# Altium footprint library Common.PcbLib: 39 footprints (part 1 of 3)
Each footprint in its own frame and in the unit in brackets; x right, y up, seen from the top. Pads: shape width x height; smd on the part's side, far side on the other; paste and mask are expansions set on the pad; w line width, h text height; cw(c..) or ccw(c..) is an arc to the next point about the centre after c.
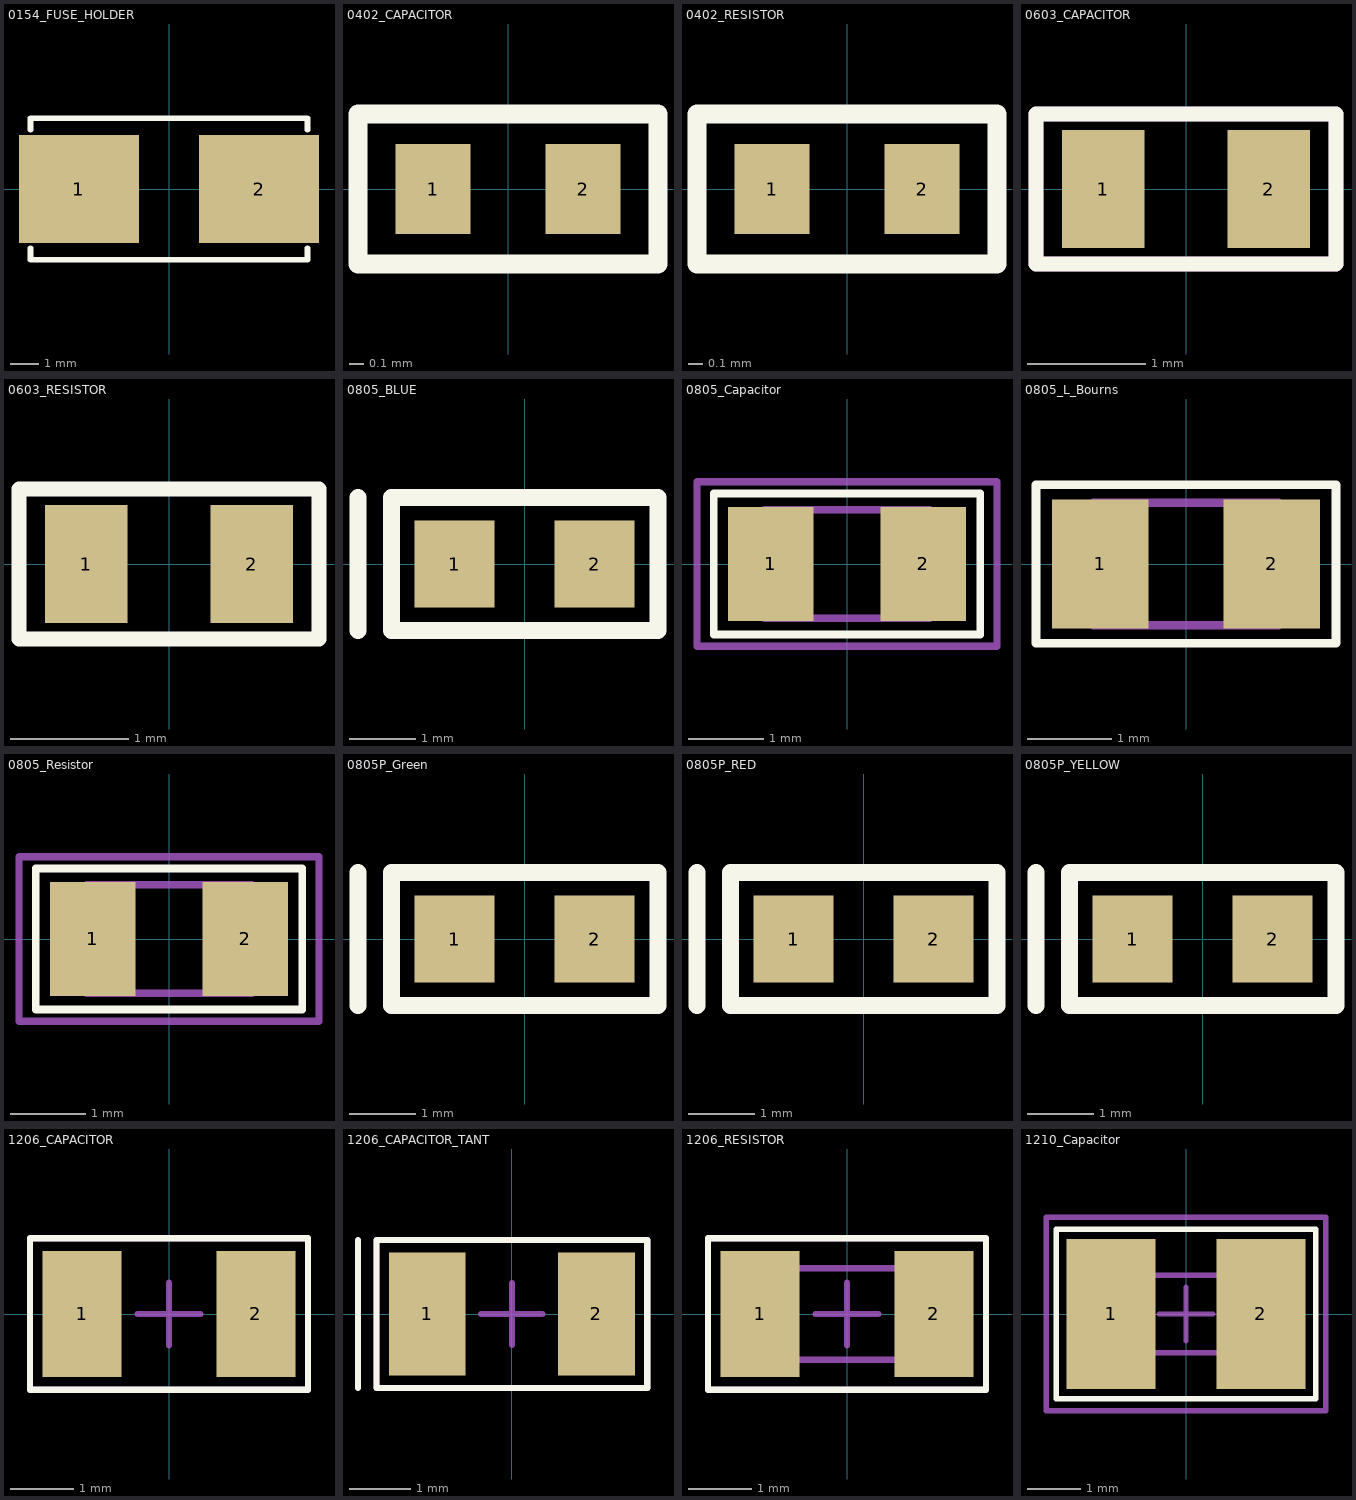
[diagram p0: the footprints below, top view; thin cyan lines are the x and y axes]

## 0154_FUSE_HOLDER [mm] "FUSE BLOK CARTRIDGE 125V 10A SMD"
height 3.81
pads (2):
  rect 4.24x3.81 smd: 1(-3.185,0) 2(3.185,0)
Top Overlay:
  lines w0.2: -4.9,-2.1 -4.9,-2.5 4.9,-2.5 4.9,-2.1 ; -4.9,2.1 -4.9,2.5 4.9,2.5 4.9,2.1
3D body "User Library-OMNI-BLOK littelfuse.step": height 3.81, standoff 0, extent -4.915,-2.515 4.915,2.515

## 0402_CAPACITOR [mil] "0402 CAPACITOR"
pads (2):
  rect 20x24 smd: 1(-20,0) 2(20,0)
Top Overlay:
  lines w5: -40,-20 40,-20 40,20 -40,20 -40,-20
Mechanical 15:
  lines w3.94: -40,-20 -40,20 40,20 40,-20 -40,-20
3D body "User Library-CAPC1005X06.step": height 23.62, standoff 0, extent -19.68,-9.84 19.69,9.85

## 0402_RESISTOR [mil] "0402 RESISTOR"
pads (2):
  rect 20x24 smd: 1(-20,0) 2(20,0)
Top Overlay:
  lines w5: -40,-20 40,-20 40,20 -40,20 -40,-20
Mechanical 15:
  lines w3.94: -40,-20 -40,20 40,20 40,-20 -40,-20
3D body "User Library-RES_1005-0402.step": height 16.64, standoff 0.5, extent -22.63,-10.82 22.64,10.83

## 0603_CAPACITOR [mm] "0603 Capacitor"
height 1.1
pads (2):
  rect 0.7x1 smd: 1(-0.7,0) 2(0.7,0)
Top Overlay:
  lines w0.127: -1.27,-0.635 -1.27,0.635 1.27,0.635 1.27,-0.635 -1.27,-0.635
Mechanical 15:
  lines w0.127: -1.27,-0.635 -1.27,0.635 1.27,0.635 1.27,-0.635 -1.27,-0.635
3D body "User Library-0603 SMD Capacitor.step": height 0.3, standoff 0, extent -0.8,-0.4 0.8,0.4

## 0603_RESISTOR [mm] "0603 RESISTOR"
height 0.8
pads (2):
  rect 0.7x1 smd: 1(-0.7,0) 2(0.7,0)
Top Overlay:
  lines w0.127: -1.27,-0.635 -1.27,0.635 1.27,0.635 1.27,-0.635 -1.27,-0.635
Mechanical 15:
  lines w0.1: -1.27,-0.635 1.27,-0.635 1.27,0.635 -1.27,0.635 -1.27,-0.635
3D body "User Library-0603 SMD Resistor.step": height 0.3, standoff 0, extent -0.8,-0.4 0.8,0.4

## 0805_BLUE [mm] "Chip Capacitor; Body 2.0 x 1.2 mm (LxW typ)"
height 1.3
pads (2):
  rect 1.2x1.3 smd: 1(-1.05,0) 2(1.05,0)
Top Overlay:
  lines w0.254: -2.5,-1 -2.5,1 ; -2,-1 2,-1 2,1 -2,1 -2,-1
3D body "0805_led_blue.stp": height 0.79, standoff 0, extent -1.016,-0.635 0.991,0.61

## 0805_Capacitor [mil] "0805 Capacitor"
height 43.31
pads (2):
  rect 45x60 smd: 1(-40,0) 2(40,0)
Top Overlay:
  lines w4: -70,-37 70,-37 70,37 -70,37 -70,-37
Mechanical 13:
  lines w3.94: -43.31,-28.54 43.31,-28.54 43.31,28.54 -43.31,28.54 -43.31,-28.54
Mechanical 15:
  lines w3.94: -78.74,-43.31 -78.74,43.31 78.74,43.31 78.74,-43.31 -78.74,-43.31
3D body "User Library-0805 SMD Capacitor.step": height 29.79, standoff -1, extent -39.37,-24.6 39.37,24.6

## 0805_L_Bourns [mil]
pads (2):
  rect 45x60 smd: 1(-40,0) 2(40,0)
Top Overlay:
  lines w4: -70,-37 70,-37 70,37 -70,37 -70,-37
Mechanical 13:
  lines w3.94: -43.31,-28.54 43.31,-28.54 43.31,28.54 -43.31,28.54 -43.31,-28.54
3D body "L_120n_0805.stp": height 39.87, standoff 0.5, extent -39.36,-19.99 39.38,19.38

## 0805_Resistor [mil] "0805 Resistor"
height 43.31
pads (2):
  rect 45x60 smd: 1(-40,0) 2(40,0)
Top Overlay:
  lines w4: -70,-37 -70,37 70,37 70,-37 -70,-37
Mechanical 13:
  lines w3.94: -43.31,-28.54 43.31,-28.54 43.31,28.54 -43.31,28.54 -43.31,-28.54
Mechanical 15:
  lines w3.94: -78.74,-43.31 -78.74,43.31 78.74,43.31 78.74,-43.31 -78.74,-43.31
3D body "User Library-0805 SMD Resistor.step": height 30.79, standoff 0, extent -39.37,-24.6 39.37,24.61

## 0805P_Green [mm] "Chip Capacitor; Body 2.0 x 1.2 mm (LxW typ)"
height 1.3
pads (2):
  rect 1.2x1.3 smd: 1(-1.05,0) 2(1.05,0)
Top Overlay:
  lines w0.254: -2.5,-1 -2.5,1 ; -2,-1 -2,1 2,1 2,-1 -2,-1
3D body "0805_led_green.stp": height 0.79, standoff 0, extent -1.016,-0.635 0.991,0.61

## 0805P_RED [mm] "Chip Capacitor; Body 2.0 x 1.2 mm (LxW typ)"
height 1.3
pads (2):
  rect 1.2x1.3 smd: 1(-1.05,0) 2(1.05,0)
Top Overlay:
  lines w0.254: -2.5,-1 -2.5,1 ; -2,-1 -2,1 2,1 2,-1 -2,-1
3D body "0805_led_red.stp": height 0.79, standoff 0, extent -1.016,-0.635 0.991,0.61

## 0805P_YELLOW [mm] "Chip Capacitor; Body 2.0 x 1.2 mm (LxW typ)"
height 1.3
pads (2):
  rect 1.2x1.3 smd: 1(-1.05,0) 2(1.05,0)
Top Overlay:
  lines w0.254: -2.5,-1 -2.5,1 ; -2,-1 2,-1 2,1 -2,1 -2,-1
3D body "0805_led_yellow.stp": height 0.79, standoff 0, extent -1.016,-0.635 0.991,0.61

## 1206_CAPACITOR [mm] "1206 Resistor/Capacitor"
height 1.1
pads (2):
  rect 1.25x2 smd: 1(-1.375,0) 2(1.375,0)
Top Overlay:
  lines w0.1: -2.2,-1.2 -2.2,1.2 2.2,1.2 2.2,-1.2 -2.2,-1.2
Mechanical 15:
  lines w0.1: -0.5,0 0.5,0 ; 0,-0.5 0,0.5 ; -2.2,-1.2 2.2,-1.2 2.2,1.2 -2.2,1.2 -2.2,-1.2
3D body "SW3dPS-1206 SMD Capacitor.STEP": height 1, standoff 0, extent -1.6,-0.8 1.6,0.8

## 1206_CAPACITOR_TANT [mm] "1206 Capacitor (Tantalum)"
height 1.1
pads (2):
  rect 1.25x2 smd: 1(-1.375,0) 2(1.375,0)
Top Overlay:
  lines w0.1: -2.5,-1.2 -2.5,1.2 ; -2.2,-1.2 -2.2,1.2 2.2,1.2 2.2,-1.2 -2.2,-1.2
Mechanical 15:
  lines w0.1: -0.5,0 0.5,0 ; 0,-0.5 0,0.5 ; -2.2,-1.2 2.2,-1.2 2.2,1.2 -2.2,1.2 -2.2,-1.2
3D body "User Library-CaseA.step": height 1.65, standoff -0.01, extent -1.732,-0.8 1.732,0.8

## 1206_RESISTOR [mm] "1206 Resistor"
height 1.1
pads (2):
  rect 1.25x2 smd: 1(-1.375,0) 2(1.375,0)
Top Overlay:
  lines w0.1: -2.2,-1.2 -2.2,1.2 2.2,1.2 2.2,-1.2 -2.2,-1.2
Mechanical 13:
  lines w0.1: -1.1,-0.725 1.1,-0.725 1.1,0.725 -1.1,0.725 -1.1,-0.725
Mechanical 15:
  lines w0.1: -0.5,0 0.5,0 ; 0,-0.5 0,0.5 ; -2.2,-1.2 2.2,-1.2 2.2,1.2 -2.2,1.2 -2.2,-1.2
3D body "User Library-1206 SMD Resistor.step": height 1, standoff 0, extent -1.6,-0.8 1.6,0.8

## 1210_Capacitor [mil] "1210 Capacitor"
height 43.31
pads (2):
  rect 65x110 smd: 1(-55,0) 2(55,0)
Top Overlay:
  lines w4: -95,-62 95,-62 95,62 -95,62 -95,-62
Mechanical 13:
  lines w3.94: -43.31,-28.54 43.31,-28.54 43.31,28.54 -43.31,28.54 -43.31,-28.54
Mechanical 15:
  lines w3.94: -19.68,0 19.69,0 ; 0,-19.68 0,19.69 ; -102.36,-70.87 102.36,-70.87 102.36,70.87 -102.36,70.87 -102.36,-70.87
3D body "User Library-cap1210.STEP": height 36.4, standoff -1.39, extent -83.78,-54.39 81.57,51.9